# EAGLE library part PCM5122PW (library pcm5122)
Audio Stereo DAC with 32-bit, 384kHz PCM Interface,TSSOP-28
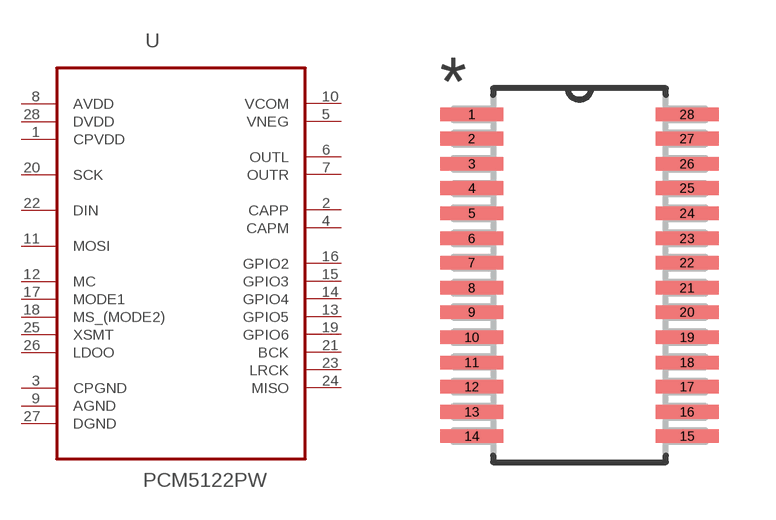
[diagram p0: symbol with the pads of SOP65P640X120-28N; footprint SOP65P640X120-28N]

Designator prefix U

## PCM5122PW (MPN: PCM5122PW; OC_FARNELL: 2307931; OC_NEWARK: 55W7071; PACKAGE: TSSOP-28; SUPPLIER: TEXAS INSTRUMENTS)  [SOP65P640X120-28N]
1  CPVDD  pas
2  CAPP  out
3  CPGND  pas
4  CAPM  out
5  VNEG  out
6  OUTL  out
7  OUTR  out
8  AVDD  pwr
9  AGND  pas
10  VCOM  out
11  MOSI  in
12  MC  in
13  GPIO5
14  GPIO4
15  GPIO3
16  GPIO2
17  MODE1  in
18  MS_(MODE2)  in
19  GPIO6
20  SCK  in
21  BCK
22  DIN  in
23  LRCK
24  MISO
25  XSMT  in
26  LDOO  pwr
27  DGND  pas
28  DVDD  pwr

## Footprint SOP65P640X120-28N (pad centres in mm)
smd 1.651 x 0.356: 1 -2.819,4.216; 2 -2.819,3.581; 3 -2.819,2.921; 4 -2.819,2.286; 5 -2.819,1.626; 6 -2.819,0.965; 7 -2.819,0.33; 8 -2.819,-0.33; 9 -2.819,-0.965; 10 -2.819,-1.626; 11 -2.819,-2.286; 12 -2.819,-2.921; 13 -2.819,-3.581; 14 -2.819,-4.216; 15 2.819,-4.216; 16 2.819,-3.581; 17 2.819,-2.921; 18 2.819,-2.286; 19 2.819,-1.626; 20 2.819,-0.965; 21 2.819,-0.33; 22 2.819,0.33; 23 2.819,0.965; 24 2.819,1.626; 25 2.819,2.286; 26 2.819,2.921; 27 2.819,3.581; 28 2.819,4.216